# EAGLE library part MSFW10 (library con-lumberg)
MSF CONNECTOR
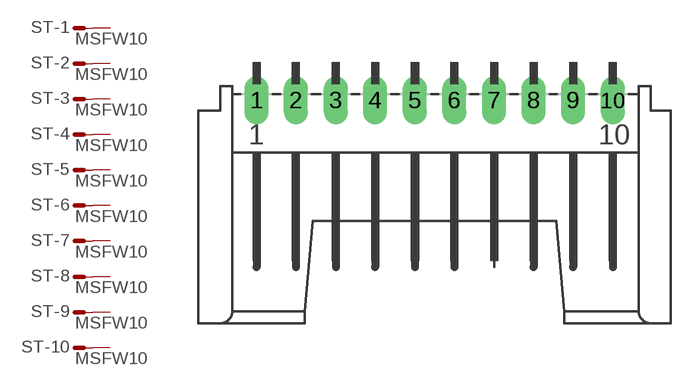
[diagram p26: symbol with the pads of MSFW10; footprint MSFW10]

Designator prefix ST; gates -1=M -2=M -3=M -4=M -5=M -6=M -7=M -8=M -9=M -10=M

## MSFW10 (OC_FARNELL: unknown; OC_NEWARK: unknown)  [MSFW10]
1  -1:S  pas
2  -2:S  pas
3  -3:S  pas
4  -4:S  pas
5  -5:S  pas
6  -6:S  pas
7  -7:S  pas
8  -8:S  pas
9  -9:S  pas
10  -10:S  pas

## Footprint MSFW10 (pad centres in mm)
MSF CONNECTOR Buerklin Nr. 56 F 583
drill 1.016 long: 1 0,1.905; 2 2.489,1.905; 3 5.004,1.905; 4 7.493,1.905; 5 10.008,1.905; 6 12.497,1.905; 7 15.011,1.905; 8 17.501,1.905; 9 19.99,1.905; 10 22.504,1.905